# EAGLE library part STAMP-40 (library stamp)
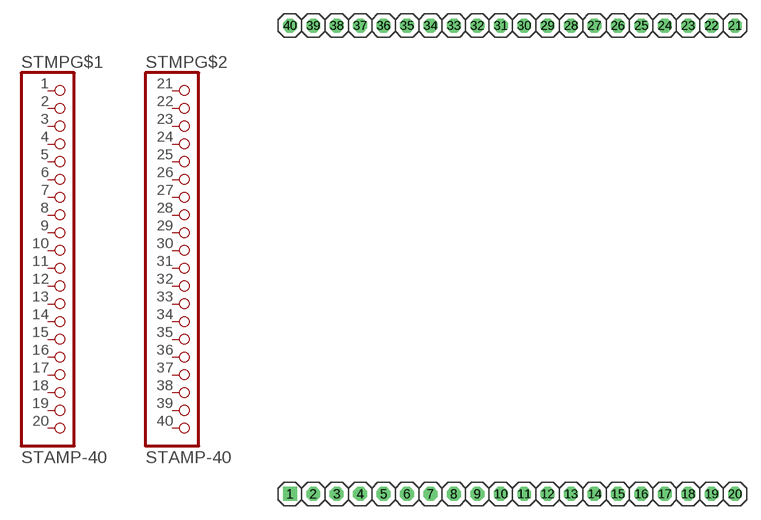
[diagram p1: symbol with the pads of STAMP-40; footprint STAMP-40]

Designator prefix STMP; gates G$1=PINHD20 G$2=PINHD20

## STAMP-40  [STAMP-40]
1  G$1:1  pas
2  G$1:2  pas
3  G$1:3  pas
4  G$1:4  pas
5  G$1:5  pas
6  G$1:6  pas
7  G$1:7  pas
8  G$1:8  pas
9  G$1:9  pas
10  G$1:10  pas
11  G$1:11  pas
12  G$1:12  pas
13  G$1:13  pas
14  G$1:14  pas
15  G$1:15  pas
16  G$1:16  pas
17  G$1:17  pas
18  G$1:18  pas
19  G$1:19  pas
20  G$1:20  pas
21  G$2:1  pas
22  G$2:2  pas
23  G$2:3  pas
24  G$2:4  pas
25  G$2:5  pas
26  G$2:6  pas
27  G$2:7  pas
28  G$2:8  pas
29  G$2:9  pas
30  G$2:10  pas
31  G$2:11  pas
32  G$2:12  pas
33  G$2:13  pas
34  G$2:14  pas
35  G$2:15  pas
36  G$2:16  pas
37  G$2:17  pas
38  G$2:18  pas
39  G$2:19  pas
40  G$2:20  pas

## Footprint STAMP-40 (pad centres in mm)
drill 1 square: 1 -24.13,-25.4
drill 1 octagon: 2 -21.59,-25.4; 3 -19.05,-25.4; 4 -16.51,-25.4; 5 -13.97,-25.4; 6 -11.43,-25.4; 7 -8.89,-25.4; 8 -6.35,-25.4; 9 -3.81,-25.4; 10 -1.27,-25.4; 11 1.27,-25.4; 12 3.81,-25.4; 13 6.35,-25.4; 14 8.89,-25.4; 15 11.43,-25.4; 16 13.97,-25.4; 17 16.51,-25.4; 18 19.05,-25.4; 19 21.59,-25.4; 20 24.13,-25.4; 21 24.13,25.4; 22 21.59,25.4; 23 19.05,25.4; 24 16.51,25.4; 25 13.97,25.4; 26 11.43,25.4; 27 8.89,25.4; 28 6.35,25.4; 29 3.81,25.4; 30 1.27,25.4; 31 -1.27,25.4; 32 -3.81,25.4; 33 -6.35,25.4; 34 -8.89,25.4; 35 -11.43,25.4; 36 -13.97,25.4; 37 -16.51,25.4; 38 -19.05,25.4; 39 -21.59,25.4; 40 -24.13,25.4